# Altium schematic symbol library semtech.SchLib: 39 symbols
Pins are listed as number, name and electrical type; pins without a type are passive.

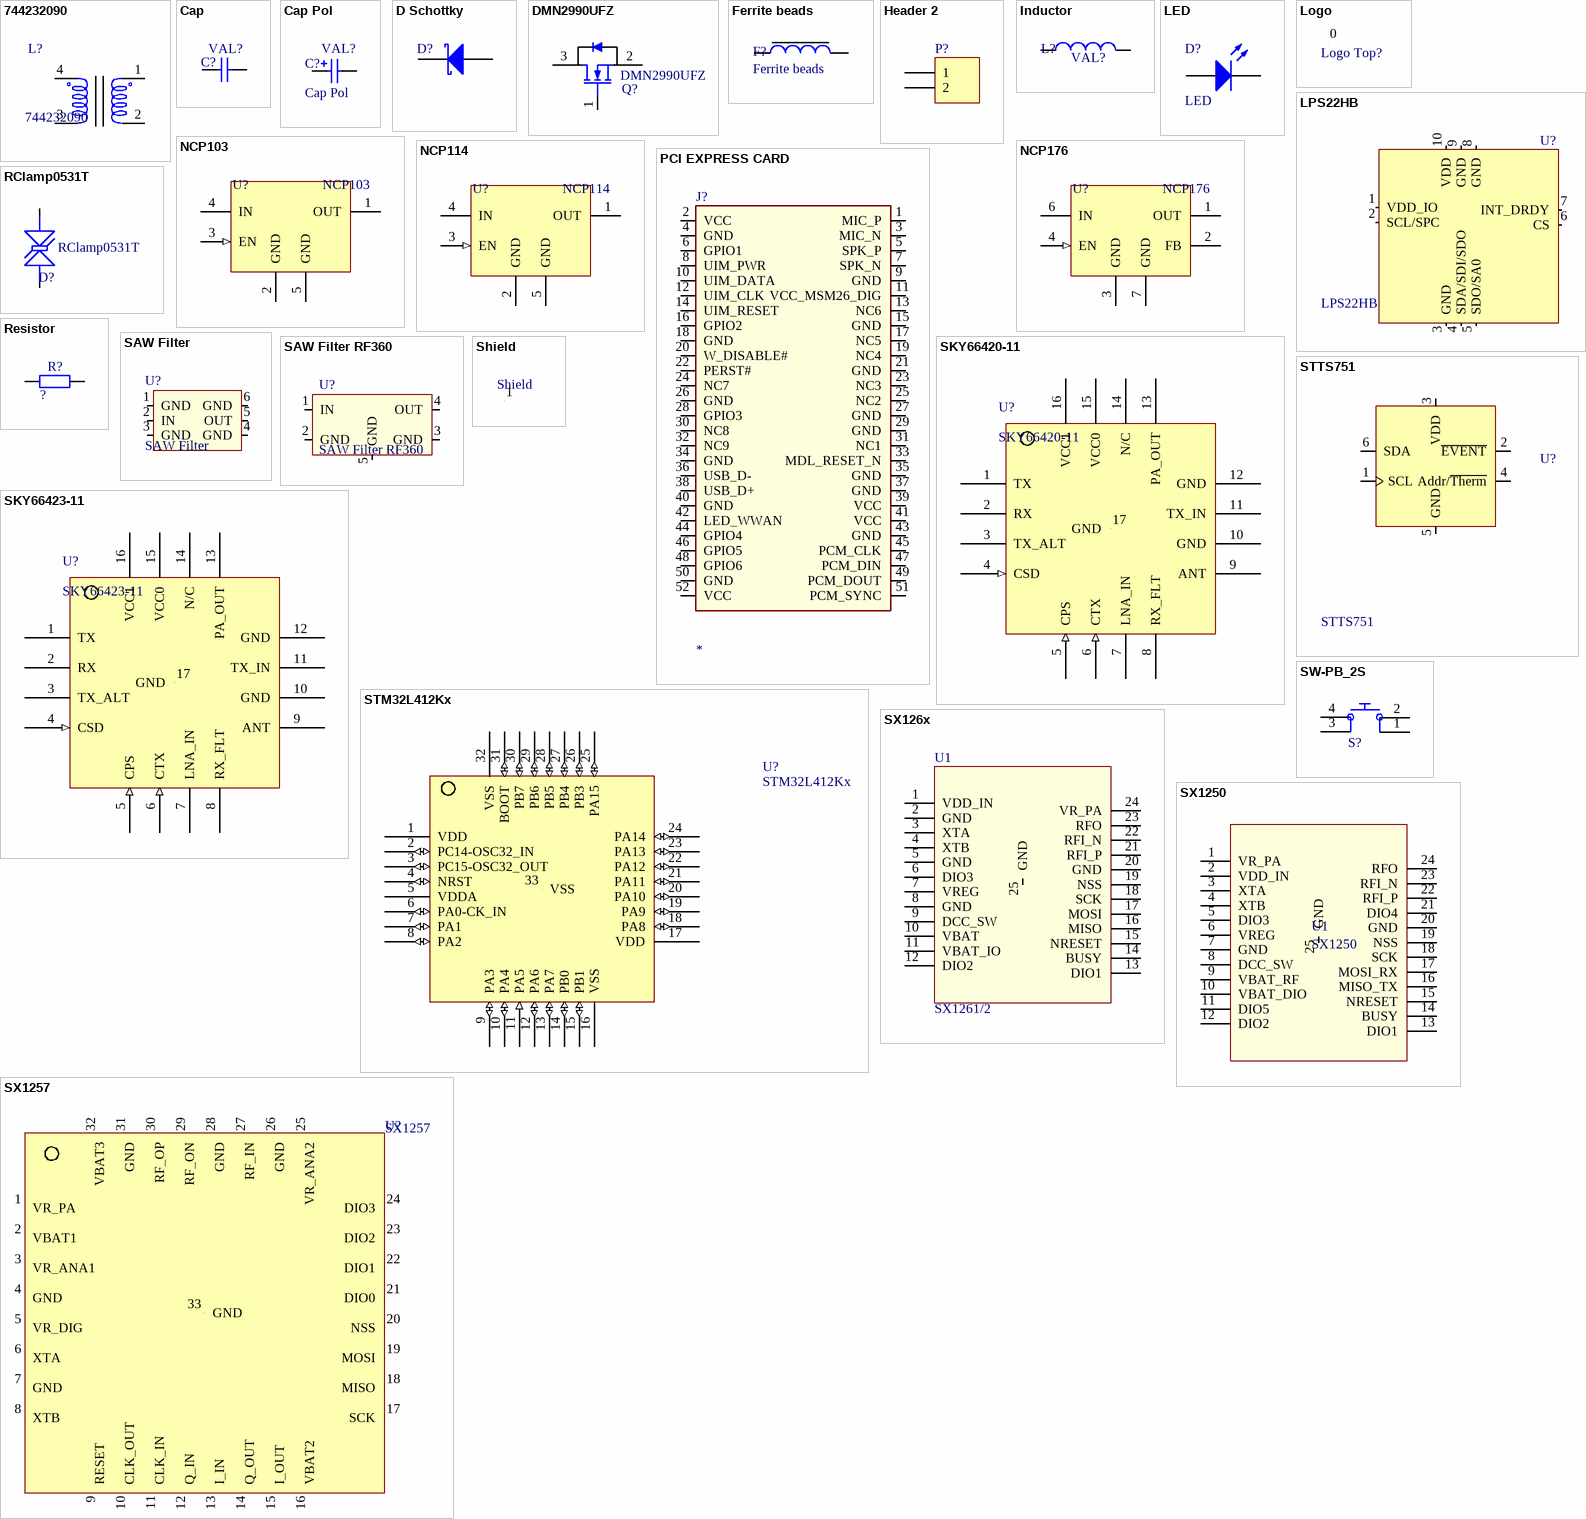
[diagram p0: symbols 744232090 to SX1257]

## 744232090
designator L?
2 Line Common Mode Choke Surface Mount 90 Ohms @ 100MHz 370mA DCR 300mOhm; MF: Wurth Electronics; Package: Horizontal-4 Wurth; MP: 744232090; Digi-Key_Purchase_URL: https://www.digikey.com/product-detail/en/w-rth-elektronik/744232090/732-1469-1-ND/1639481?utm_source=snapeda&utm_medium=aggregator&utm_campaign=symbol; Digi-Key_Part_Number: 732-1469-1-ND; SnapEDA_Link: https://www.snapeda.com/parts/744232090/Wurth%20Electronics%20Inc./view-part/524159/?ref=snap; Value: *
footprint *IND_744232090
pins: 1, 2, 3, 4

## Cap
designator C?  value VAL?  (hidden comment: Cap)
Capacitor SMD; Published: 8-Jun-2000; LatestRevisionDate: 05-oct-2007  -  Semtech; LatestRevisionNote: Re-released for DXP Platform.; Publisher: Altium Limited
simulation model CAP (Semiconductor Capacitor)
signal-integrity model Cap Semi
footprint rlc_402_smd (Chip SMD component 402; Body 1.0 x 0.5 mm (LxW typ))
footprint rlc_603_smd (Chip SMD component 603; Body 1.6 x 0.8mm (LxW typ))
footprint rlc_805_smd (Chip SMD component 805; Body 2.0 x 1.25 mm (LxW typ))
footprint rlc_1206_smd (Chip SMD component 1206; Body 3.2 x 1.6 mm (LxW typ))
footprint rlc_201_smd (Chip SMD component 201; Body 0.6 x 0.3 mm (LxW typ))
footprint CD3224 (Chip Diode; Body 3.2 x 2.4mm (LxW typ))
footprint rlc_201_smd_small (Chip SMD component 201; Body 0.6 x 0.3 mm (LxW typ); small footprint)
footprint rlc_402_smd_small (Chip SMD component 402; Body 1.0 x 0.5 mm (LxW typ);small footprint)
footprint rlc_603_smd_small (Chip SMD component 603; Body 1.6 x 0.8mm (LxW typ); small footprint)
footprint rlc_805_smd_small (Chip SMD component 805; Body 2.0 x 1.25 mm (LxW typ); small footprint)
footprint rlc_1206_smd_small (Chip SMD component 1206; Body 3.2 x 1.6 mm (LxW typ))
pins: 1, 2

## Cap Pol
designator C?  value VAL?
Polarized Capacitor (Surface Mount); Published: 8-Jun-2000; LatestRevisionDate: 05-oct-2007  -  Semtech; LatestRevisionNote: Re-released for DXP Platform.; Publisher: Altium Limited
simulation model CAP (Capacitor)
signal-integrity model Cap Pol
footprint rlc_1210_smd (Chip SMD component 1210; Body 3.2 x 2.5 mm (LxW typ))
footprint rlc_1812_smd (Chip SMD component 1812; Body 4.5 x 3.2 mm (LxW typ))
footprint rlc_2225_smd (Chip SMD component 2225; Body 5.6 x 6.4 mm (LxW typ))
footprint CD3216-1206 (Chip Diode; Body 3.2 x 1.6 mm (LxW typ))
footprint CD2012-0805 (Chip Diode; Body 2.0 x 1.3 mm (LxW typ))
footprint rlc_1206_smd capa pol (Chip SMD component 1206 pol; Body 3.2 x 1.6 mm (LxW typ))
pins: 1, 2
1 alternate drawing of the same symbol

## D Schottky
designator D?
Schottky Diode; Published: 8-Jun-2000; LatestRevisionDate: 17-Jul-2002; LatestRevisionNote: Re-released for DXP Platform.; PackageReference: SMB; Publisher: Altium Limited; Code_JEDEC: DO-214-AA
footprint SOD523 (SOD523; Chip Diode; Body 1.2 x 0.8 mm (LxW typ))
pins: 1 K, 2 A

## DMN2990UFZ
designator Q?
20V N-Channel Enhancement Mode MOSFET; LatestRevisionDate: 04-04-14  -  Semtech
footprint Model Name (Footprint not found)
footprint X2-DFN0606-3 (X2-DFN0606-3 , 3-Leads, Body 1.0x0.6mm)
pins: 1 G, 2 S, 3 D

## Ferrite beads
designator F?
Value: VAL?
footprint rlc_1206_smd (Chip SMD component 1206; Body 3.2 x 1.6 mm (LxW typ))
footprint rlc_805_smd (Chip SMD component 805; Body 2.0 x 1.25 mm (LxW typ))
footprint rlc_603_smd (Chip SMD component 603; Body 1.6 x 0.8mm (LxW typ))
footprint rlc_402_smd (Chip SMD component 402; Body 1.0 x 0.5 mm (LxW typ))
footprint rlc_201_smd (Chip SMD component 201; Body 0.6 x 0.3 mm (LxW typ))
footprint rlc_201_smd_small (Chip SMD component 201; Body 0.6 x 0.3 mm (LxW typ); small footprint)
footprint rlc_402_smd_small (Chip SMD component 402; Body 1.0 x 0.5 mm (LxW typ);small footprint)
footprint rlc_603_smd_small (Chip SMD component 603; Body 1.6 x 0.8mm (LxW typ); small footprint)
footprint rlc_805_smd_small (Chip SMD component 805; Body 2.0 x 1.25 mm (LxW typ); small footprint)
pins: 1, 2

## Header 2
designator P?
Header, 2-Pin; LatestRevisionDate: 17-Jul-2002; LatestRevisionNote: Re-released for DXP Platform.; Publisher: Altium Limited
footprint HDR1X2 (Connector; Header; 2 Position)
signal-integrity model Connector
footprint HDR1X2_SMD (Connector; Header; 2 Position; SMD)
pins: 1, 2

## Inductor
designator L?  value VAL?  (hidden comment: Inductor)
Code_IEC: 1005; Published: 8-Jun-2000; LatestRevisionDate: 05-oct-2007  -  Semtech; LatestRevisionNote: Re-released for DXP Platform.; Publisher: Altium Limited; Code_JEITA: 0402
footprint rlc_402_smd (Chip SMD component 402; Body 1.0 x 0.5 mm (LxW typ))
footprint rlc_1812_smd (Chip SMD component 1812; Body 4.5 x 3.2 mm (LxW typ))
footprint WE-PD2 Wurth 5.2 x 5.8mm (Chip Diode; Body  5.2 x 5.8mm (LxW typ))
footprint XFL4020 Series (Chip SMD component ; Body 4.0 x 4.0 mm (LxW typ))
footprint L2813
footprint L4818
footprint rlc_201_smd (Chip SMD component 201; Body 0.6 x 0.3 mm (LxW typ))
footprint rlc_201_smd_small (Chip SMD component 201; Body 0.6 x 0.3 mm (LxW typ); small footprint)
footprint rlc_402_smd_small (Chip SMD component 402; Body 1.0 x 0.5 mm (LxW typ);small footprint)
footprint rlc_603_smd_small (Chip SMD component 603; Body 1.6 x 0.8mm (LxW typ); small footprint)
footprint rlc_805_smd_small (Chip SMD component 805; Body 2.0 x 1.25 mm (LxW typ); small footprint)
footprint rlc_603_smd (Chip SMD component 603; Body 1.6 x 0.8mm (LxW typ))
footprint rlc_805_smd (Chip SMD component 805; Body 2.0 x 1.25 mm (LxW typ))
pins: 1, 2

## LED
designator D?
LatestRevisionDate: 05-oct-2007  -  Semtech
footprint CD1005-0402 (Chip Diode; Body 1.0 x 0.5 mm (LxW typ))
footprint CD1608-0603 (Chip Diode; Body 1.6 x 0.8 mm (LxW typ))
footprint CD2012-0805 (Chip Diode; Body 2.0 x 1.3 mm (LxW typ))
footprint Reverse LED 3216 - 1206-hole round (Reverse Package Chip LED; Body 3.2 x 1.6 mm (LxW typ))
footprint Reverse LED 3216 - 1206 - hole slot (Reverse Package Chip LED; Body 3.2 x 1.6 mm (LxW typ))
footprint LGM676 LED (Chip Diode; Body 2.1 x 1.4 mm (LxW typ))
pins: 1 A, 2 K

## Logo
designator Logo Top?, comment Logo symbol  (value not drawn)
Schematic symbol for Logo
footprint logo_semtech_horiz_size1 (Logo semtech horizontal - size1 - S)
footprint logo_semtech_horiz_size2 (Logo semtech horizontal - size2 - M)
footprint logo_semtech_horiz_size3 (Logo semtech horizontal - size3 - L)
footprint logo_semtech_horiz_size4 (Logo semtech horizontal - size4 - XL)
footprint Logo DC Supply (Logo for DC Supply)
footprint Logo Recycling2
footprint Logo Recycling1
footprint Logo ESD
footprint Logo CE
footprint Logo LoRa Size4 (Logo LoRa Size4 - Top Overlay - 18x9.5mm - Registered)
footprint Logo LoRa Size3 (Logo LoRa Size3 - Top Overlay - 14.5x8mm - Registered)
footprint Logo LoRa Size2 (Logo LoRa Size2 - Top Overlay - 9x5.5mm - Registered)
footprint Logo LoRa Size1 (Logo LoRa Size1 - Top Overlay - 6x4mm - Registered)
pins: 0 "Logo"

## LPS22HB
designator U?
MEMS nano pressure sensor: 260-1260 hPa absolute digital output barometer; ComponentLink1Description: DataSheet; ComponentLink1URL: https://www.st.com/resource/en/datasheet/dm00140895.pdf
footprint HLGA-10L 2x2mm (HLGA-10L 2x2m; 0.5mm pitch)
pins: 1 VDD_IO (power), 2 SCL/SPC (in), 3 GND (power), 4 SDA/SDI/SDO (io), 5 SDO/SA0 (io), 6 CS (in), 7 INT_DRDY (out), 8 GND (power), 9 GND (power), 10 VDD (power)

## NCP103
designator U?
150 mA CMOS Low Dropout Regulator; Value: ?
footprint UDFN4_1x1mm
pins: 1 OUT (power), 2 GND (power), 3 EN (in), 4 IN, 5 GND (power)

## NCP114
designator U?
300 mA CMOS Low Dropout Regulator; Value: ?
footprint UDFN4_1x1mm
pins: 1 OUT (power), 2 GND (power), 3 EN (in), 4 IN, 5 GND (power)

## NCP176
designator U?
Fast Transient Response Low Voltage 500 mA LDO; Value: ?
footprint XDFN6_1.2X1.2mm (6 Leads, Body 1.2x1.2mm, pitch 0.40mm, XDFN6)
pins: 1 OUT (power), 2 FB (power), 3 GND (power), 4 EN (in), 6 IN, 7 GND (power)

## PCI EXPRESS CARD
designator J?
PCI Express Card - Connector
footprint PCIeMini-GF-2D-800-1K-S52 (Golden finger, PCIeMini, Dual, Staggered, Pitch 0.8mm, 52-Position)
pins: 1 MIC_P (oc), 2 VCC (power), 3 MIC_N, 4 GND (power), 5 SPK_P, 6 GPIO1, 7 SPK_N (oc), 8 UIM_PWR, 9 GND (power), 10 UIM_DATA, 11 VCC_MSM26_DIG, 12 UIM_CLK, 13 NC6, 14 UIM_RESET, 15 GND (power), 16 GPIO2, 17 NC5, 18 GND (power), 19 NC4, 20 W_DISABLE#, 21 GND (power), 22 PERST#, 23 NC3, 24 NC7, 25 NC2, 26 GND (power), 27 GND (power), 28 GPIO3, 29 GND (power), 30 NC8, 31 NC1, 32 NC9, 33 MDL_RESET_N, 34 GND (power), 35 GND (power), 36 USB_D-, 37 GND (power), 38 USB_D+, 39 VCC (power), 40 GND (power), 41 VCC (power), 42 LED_WWAN, 43 GND (power), 44 GPIO4, 45 PCM_CLK, 46 GPIO5, 47 PCM_DIN, 48 GPIO6, 49 PCM_DOUT, 50 GND (power), 51 PCM_SYNC, 52 VCC (power)

## RClamp0531T
designator D?
Ultra Low Capacitance 1-line ESD Protection; LatestRevisionDate: 23-Aug-2016; Type: RClamp0531T
footprint SLP1006P2T (Chip TVS Diode; Body 1.0 x 0.6 mm (LxW typ))
pins: 1 A, 2 K

## Resistor
designator R?  (value not drawn)
Resistor SMD - IEC symbol version; LatestRevisionDate: 27-Jul-20  -  Semtech; Value: ?
footprint rlc_201_smd (Chip SMD component 201; Body 0.6 x 0.3 mm (LxW typ))
footprint rlc_402_smd (Chip SMD component 402; Body 1.0 x 0.5 mm (LxW typ))
footprint rlc_603_smd (Chip SMD component 603; Body 1.6 x 0.8mm (LxW typ))
footprint rlc_805_smd (Chip SMD component 805; Body 2.0 x 1.25 mm (LxW typ))
footprint rlc_1206_smd (Chip SMD component 1206; Body 3.2 x 1.6 mm (LxW typ))
footprint rlc_201_smd_small (Chip SMD component 201; Body 0.6 x 0.3 mm (LxW typ); small footprint)
footprint rlc_402_smd_small (Chip SMD component 402; Body 1.0 x 0.5 mm (LxW typ);small footprint)
footprint rlc_603_smd_small (Chip SMD component 603; Body 1.6 x 0.8mm (LxW typ); small footprint)
footprint rlc_805_smd_small (Chip SMD component 805; Body 2.0 x 1.25 mm (LxW typ); small footprint)
pins: 1, 2

## SAW Filter
designator U?
SAW Filter - Bandpass - TEMEX type; LatestRevisionDate: 05-oct-2007  -  Semtech
footprint sc44_3.8x3.8mm (sc44 footprint, 3.8x3.8mm)
footprint DCC6C_3.0x3.0mm (DCC6C footprint, 3.0x3.0mm)
pins: 1 GND, 2 IN, 3 GND, 4 GND, 5 OUT, 6 GND

## SAW Filter RF360
designator U?
LatestRevisionDate: 03-03-2017  -  Semtech
footprint QCS5P_1.4x1.1mm (Footprint not found)
pins: 1 IN, 2 GND, 3 GND, 4 OUT, 5 GND

## Shield
designator Shield, comment RF Shield  (value not drawn)
RF Shield - EMI Gasket - Standard Surface Mount Shields
footprint BMI-S-205-F - Shield (BMIS-205-F EMI Gasket - modif SolderMask - Standard Surface Mount Shields -  Laird Technologies)
footprint BMI-S-230-F - Shield (BMI-S-230-F EMI Gasket - SolderMask - Standard Surface Mount Shields -  Laird Technologies)
footprint BMI-S-210-F - Shield (BMI-S-210-F EMI Gasket - SolderMask - Standard Surface Mount Shields -  Laird Technologies)
footprint SMS-461 - Shield (SMS-461 - RF Shield EMI Gasket - Standard Surface Mount Shields -  Leader Tech)
footprint AKMF-18001F Shield (AKMF-18001F - RF Shield EMI Gasket - Standard Surface Mount Shields -  Leader Tech)
pins: 1 "Shield"

## SKY66420-11
designator U?
SKY66420-11 - 860 to 930MHz Front-End Module
footprint SKY66420_16P_3x3mm (16 Leads, Body 3.0x3.0mm, Pitch 0.50mm)
pins: 1 TX, 2 RX, 3 TX_ALT, 4 CSD (in), 5 CPS (in), 6 CTX (in), 7 LNA_IN, 8 RX_FLT, 9 ANT, 10 GND (power), 11 TX_IN, 12 GND (power), 13 PA_OUT, 14 N/C, 15 VCC0 (power), 16 VCC1 (power), 17 GND (power)

## SKY66423-11
designator U?
SKY66423-11 - 860 to 930MHz Front-End Module
footprint SKY66423_16P_3x3mm (16 Leads, Body 3.0x3.0mm, Pitch 0.50mm)
pins: 1 TX, 2 RX, 3 TX_ALT, 4 CSD (in), 5 CPS (in), 6 CTX (in), 7 LNA_IN, 8 RX_FLT, 9 ANT, 10 GND (power), 11 TX_IN, 12 GND (power), 13 PA_OUT, 14 N/C, 15 VCC0 (power), 16 VCC1 (power), 17 GND (power)

## STM32L412Kx
designator U?
Ultra-low-power Arm® Cortex®-M4 32-bit MCU+FPU, 100DMIPS, up to 128KB Flash, 40KB SRAM, analog, ext. SMPS
footprint UFQFPN32_5x5mm (UFQFPN32 Leads, Body 5.0x5.0mm, Pitch 0.50mm)
pins: 1 VDD, 2 PC14-OSC32_IN (io), 3 PC15-OSC32_OUT (io), 4 NRST (io), 5 VDDA (power), 6 PA0-CK_IN (io), 7 PA1 (io), 8 PA2 (io), 9 PA3 (io), 10 PA4 (io), 11 PA5 (in), 12 PA6 (io), 13 PA7 (io), 14 PB0 (io), 15 PB1 (io), 16 VSS (power), 17 VDD (power), 18 PA8 (io), 19 PA9 (io), 20 PA10 (io), 21 PA11 (io), 22 PA12 (io), 23 PA13 (io), 24 PA14 (io), 25 PA15 (io), 26 PB3 (io), 27 PB4 (io), 28 PB5 (io), 29 PB6 (io), 30 PB7 (io), 31 BOOT (io), 32 VSS (power), 33 VSS (power)

## STTS751
designator U?
2.25 V low-voltage local digital temperature sensor; ComponentLink1Description: DataSheet; ComponentLink1URL: https://www.st.com/resource/en/datasheet/dm00140895.pdf
footprint UDFN-6L_2X2mm (6 Leads, Body 2x2mm, pitch 0.65mm, UDFN-6L)
pins: 1 SCL, 2 ~{EVENT}, 3 VDD (power), 4 Addr/~{Therm}, 5 GND (power), 6 SDA (io)

## SW-PB_2S
designator S?, comment SW_PB_2S  (value not drawn)
Subminiature Toggle Switch, Right Angle Mounting, Vertical Actuation; Published: 03-Jul-2017; LatestRevisionDate: 03-Jul-2017; LatestRevisionNote: Schematic revised, PCB Footprint replaced.; DatasheetDocument: 03-Jul-2017; Publisher: Altium Limited; ComponentLink1Description: Manufacturer Link
footprint PTS_830_series_switch_3.5x2.6mm (Single pole switch; Body 3.5x 2.6 mm (LxW typ))
pins: 1, 2, 3, 4

## SX126x
designator U1, comment SX1261/2
SX1261/2 - Ultra low power RF transceiver
footprint vqfn24_4x4mm (24 Leads, Body 4.0x4.0mm, Pitch 0.50mm, VQFN24)
footprint vqfn24_4x4mm (24 Leads, Body 4.0x4.0mm, Pitch 0.50mm, VQFN24)
pins: 1 VDD_IN (power), 2 GND, 3 XTA, 4 XTB, 5 GND, 6 DIO3, 7 VREG (power), 8 GND, 9 DCC_SW (power), 10 VBAT (power), 11 VBAT_IO (power), 12 DIO2, 13 DIO1, 14 BUSY, 15 NRESET, 16 MISO, 17 MOSI, 18 SCK, 19 NSS, 20 GND, 21 RFI_P, 22 RFI_N, 23 RFO, 24 VR_PA (power), 25 GND

## SX1250
designator U1
SX1250 - Ultra low power RF Front-End
footprint vqfn24_4x4mm (24 Leads, Body 4.0x4.0mm, Pitch 0.50mm, VQFN24)
pins: 1 VR_PA (power), 2 VDD_IN, 3 XTA, 4 XTB, 5 DIO3, 6 VREG (power), 7 GND (power), 8 DCC_SW, 9 VBAT_RF (power), 10 VBAT_DIO (power), 11 DIO5, 12 DIO2, 13 DIO1, 14 BUSY, 15 NRESET, 16 MISO_TX, 17 MOSI_RX, 18 SCK, 19 NSS, 20 GND (power), 21 DIO4, 22 RFI_P, 23 RFI_N, 24 RFO, 25 GND (power)

## SX1257
designator U?
SX1257 RF Front-End Transceiver - I/Q New Pinout; LatestRevisionDate: 06-Dec-2013  -  Semtech
footprint vqfn32_5x5mm (32 Leads, Body 5.0x5.0mm, Pitch 0.50mm, VQFN32)
pins: 1 VR_PA, 2 VBAT1, 3 VR_ANA1, 4 GND, 5 VR_DIG, 6 XTA, 7 GND, 8 XTB, 9 RESET, 10 CLK_OUT, 11 CLK_IN, 12 Q_IN, 13 I_IN, 14 Q_OUT, 15 I_OUT, 16 VBAT2, 17 SCK, 18 MISO, 19 MOSI, 20 NSS, 21 DIO0, 22 DIO1, 23 DIO2, 24 DIO3, 25 VR_ANA2, 26 GND, 27 RF_IN, 28 GND, 29 RF_ON, 30 RF_OP, 31 GND, 32 VBAT3, 33 GND

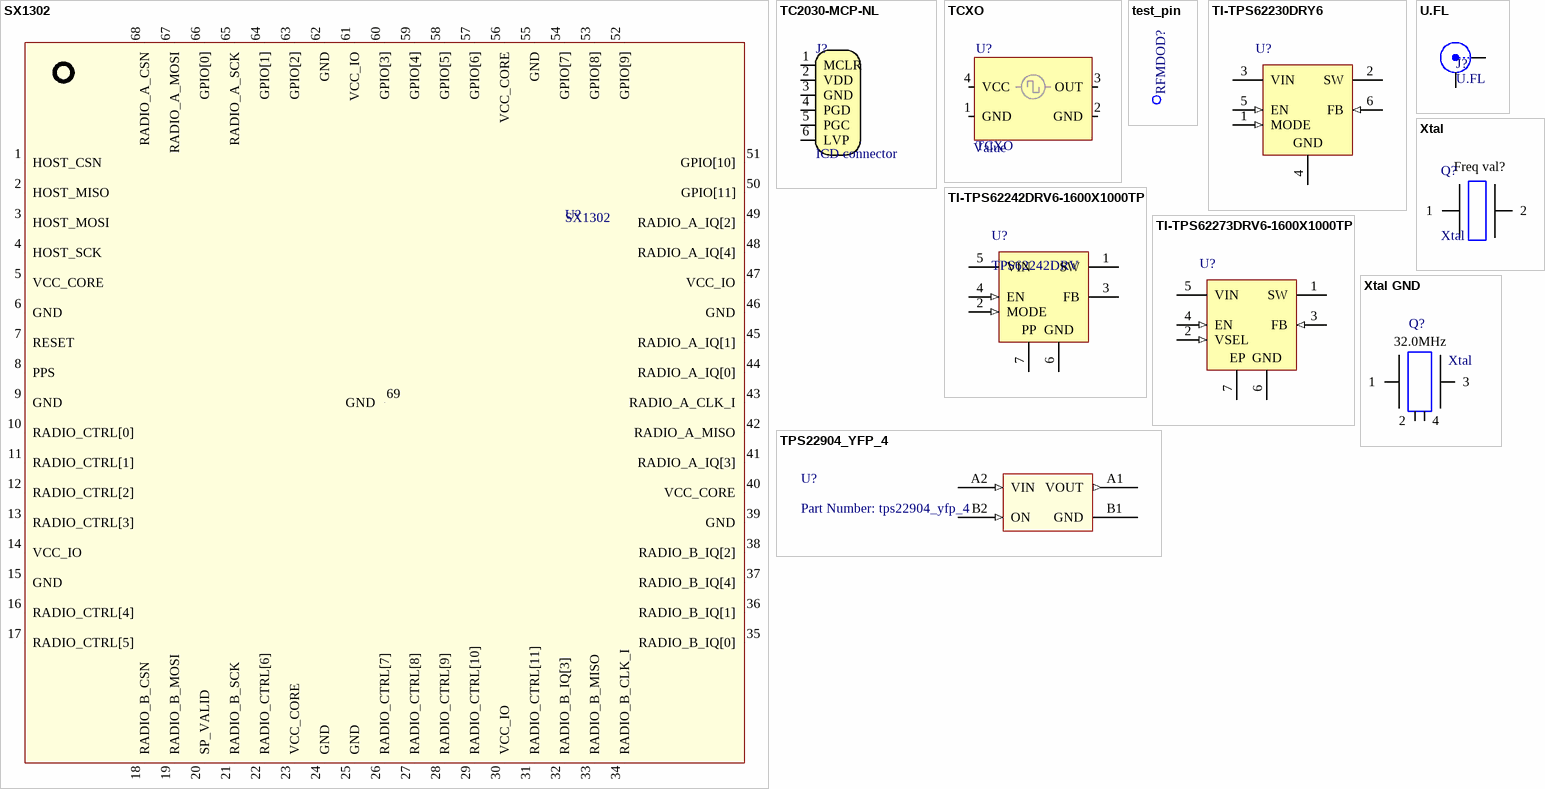
[diagram p1: symbols SX1302 to Xtal GND]

## SX1302
designator U?
SX1302 - Base Band Processor for Data Concentrator for Long Range Communication Network;; LatestRevisionDate: 19-Mar-2014 - Semtech
footprint vqfn68_7x7mm (VQFN68 Leads, Body 7.0x7.0mm, Pitch 0.35mm)
pins: 1 HOST_CSN, 2 HOST_MISO, 3 HOST_MOSI, 4 HOST_SCK, 5 VCC_CORE (power), 6 GND (power), 7 RESET, 8 PPS, 9 GND, 10 RADIO_CTRL[0], 11 RADIO_CTRL[1], 12 RADIO_CTRL[2], 13 RADIO_CTRL[3], 14 VCC_IO (power), 15 GND (power), 16 RADIO_CTRL[4], 17 RADIO_CTRL[5], 18 RADIO_B_CSN, 19 RADIO_B_MOSI, 20 SP_VALID, 21 RADIO_B_SCK, 22 RADIO_CTRL[6], 23 VCC_CORE (power), 24 GND (power), 25 GND (power), 26 RADIO_CTRL[7], 27 RADIO_CTRL[8], 28 RADIO_CTRL[9], 29 RADIO_CTRL[10], 30 VCC_IO (power), 31 RADIO_CTRL[11], 32 RADIO_B_IQ[3], 33 RADIO_B_MISO, 34 RADIO_B_CLK_I, 35 RADIO_B_IQ[0], 36 RADIO_B_IQ[1], 37 RADIO_B_IQ[4], 38 RADIO_B_IQ[2], 39 GND (power), 40 VCC_CORE (power), 41 RADIO_A_IQ[3], 42 RADIO_A_MISO, 43 RADIO_A_CLK_I, 44 RADIO_A_IQ[0], 45 RADIO_A_IQ[1], 46 GND (power), 47 VCC_IO (power), 48 RADIO_A_IQ[4], 49 RADIO_A_IQ[2], 50 GPIO[11], 51 GPIO[10], 52 GPIO[9], 53 GPIO[8], 54 GPIO[7], 55 GND (power), 56 VCC_CORE (power), 57 GPIO[6], 58 GPIO[5], 59 GPIO[4], 60 GPIO[3], 61 VCC_IO (power), 62 GND (power), 63 GPIO[2], 64 GPIO[1], 65 RADIO_A_SCK, 66 GPIO[0], 67 RADIO_A_MOSI, 68 RADIO_A_CSN, 69 GND (power)

## TC2030-MCP-NL
designator J?, comment ICD connector  (no BOM)
Conector par ICD
footprint TC2030-MCP-NL (Conector ICD en placa)
footprint TC2030-MCP (Conector ICD en placa)
pins: 1 MCLR, 2 VDD, 3 GND, 4 PGD, 5 PGC, 6 LVP

## TCXO
designator U?
Value: Value
footprint TCXO 3.2x2.5mm (SMD 3.2x2.5mm for TCXO or VCTCXO)
footprint TCXO 3.2x2.5mm_2.0x1.6mm (SMD 3.2x2.5mm & 2.0x1.6mm compatible for TCXO or VCTCXO)
footprint TCXO 2.0x1.6mm (SMD 2.0x1.6mm for TCXO or VCTCXO)
pins: 1 GND, 2 GND, 3 OUT, 4 VCC

## test_pin
designator RFMDOD?, comment Test Pin  (value not drawn)
LatestRevisionDate: 05-oct-2007  -  Semtech
footprint pin_1mm (Generic Pin 1.1mm; 1 Lead)
footprint pin_1.1mm (Generic Pin 1.1mm; 1 Lead)
footprint pin_0.9mm (Generic Pin 0.9mm; 1 Lead)
footprint PIN_SMD (Generic Pin SMD; 1 Lead)
footprint pin_0.8mm (Generic Pin 0.8mm; 1 Lead)
pins: 1 pin "Test Pin"

## TI-TPS62230DRY6
designator U?
pins: 1 MODE (in) "MODE pin = high forces the device to operate in PWM mode. Mode = low enables the Power Save Mode with automatic transition from PFM (Pulse frequency mode) to PWM (pulse width modulation) mode.", 2 SW (power) "This is the switch pin and is connected to the internal MOSFET switches. Connect the inductor to this terminal", 3 VIN (power) "VIN power supply pin.", 4 GND (power), 5 EN (in) "This is the enable pin of the device. Pulling this pin to low forces the device into shutdown mode. Pulling this pin to high enables the device. This pin must be terminated.", 6 FB (in) "Feedback Pin for the internal regulation loop. Connect this pin directly to the output capacitor."

## TI-TPS62242DRV6-1600X1000TP
designator U?, comment TPS62242DRV
TPS6224x 2.25-MHz 300-mA Step-Down Converter
footprint DRV0006A_V (SON, 6-Leads, Body 2x2mm, Pitch 0.65mm, Thermal Pad 1.6x1mm, TI Recommended)
pins: 1 SW (power) "This is the switch pin and is connected to the internal MOSFET switches. Connect the inductor to this terminal.", 2 MODE (in) "This pin is only available at SON package option. MODE pin = high forces the device to operate in fixed frequency PWM mode. MODE pin = low enables the Power Save Mode with automatic transition from PFM mode to fixed (See Datasheet)", 3 FB "Feedback Pin for the internal regulation loop. Connect the external resistor divider to this pin. In case of fixed output voltage option, connect this pin directly to the output capacitor.", 4 EN (in) "This is the enable pin of the device. Pulling this pin to low forces the device into shutdown mode. Pulling this pin to high enables the device. This pin must be terminated.", 5 VIN (power) "VIN power supply pin.", 6 GND (power) "GND supply pin", 7 PP (power) "Exposed Thermal Pad"

## TI-TPS62273DRV6-1600X1000TP
designator U?
pins: 1 SW (power) "This is the switch pin and is connected to the internal MOSFET switches. Connect the inductor to this terminal", 2 VSEL (in) "Voltage Select input. Please refer to table ordering information for available output voltage selections.", 3 FB (in) "Feedback Pin for the internal regulation loop. Connect the external resistor divider to this pin. In case of fixed output voltage option, connect this pin directly to the output capacitor", 4 EN (in) "This is the enable pin of the device. Pulling this pin to low forces the device into shutdown mode. Pulling this pin to high enables the device. This pin must be terminated.", 5 VIN (power) "VIN power supply pin.", 6 GND (power) "GND supply pin", 7 EP (power) "Exposed Pad"

## TPS22904_YFP_4
designator U?, comment Part Number: tps22904_yfp_4
Ultra-Small Low-Input-Voltage Low rON Load Switch with Quick Output Discharge; Vendor: Texas Instruments; PACKAGE_DESIGNATOR: YFP; PIN_COUNT: 4; FAMILY_NAME: NON CURRENT LIMITED LOAD SWITCH; INDUSTRY_STD_PKG_TYPE: DSBGA; Manufacturer_Part_Number: tps22904_yfp_4; GENERIC_PART_NUMBER: TPS22904; Datasheet_URL: http://www.ti.com/lit/gpn/TPS22904; Manufacturer: Texas Instruments; Copyright: Copyright (C) 2018 Accelerated Designs. All rights reserved; RefDes: RefDes; Type: DEV; Value: Value
pins: A1 VOUT (out), A2 VIN (in), B1 GND (power), B2 ON (in)

## U.FL
designator J?
U.FL Hirose RF Connector; LatestRevisionDate: 21-Feb-2012  -  Semtech
footprint U.FL-R-SMT Hirose (Hirose U.FL RF receptacle - U.FL-R-SMT)
pins: 1 Signal "RF signal", 2 GND "Ground signal", 3 GND "Ground signal"

## Xtal
designator Q?  value Freq val?
Crystal oscillator; LatestRevisionDate: 05-oct-2007  -  Semtech
footprint 3SMXA (Quartz Crystal, SM; Body 6.2 x 3.7 mm (LxW max))
footprint 12SMXA (Quartz Crystal, SM; Body 7.5 x 5.1 mm (LxW max))
footprint BCY-W2/D1.5 (Crystal, Thru-Hole; 2 Leads; Body 1.5 x 5.1 mm (Dia.xH))
footprint BCY-W2/D2.1 (Crystal, Thru-Hole; 2 Leads; Body 2.1 x 6.2 mm (Dia.xH))
footprint DSO-C4/Y2 (Quartz Crystal, SM; 4 Leads; Body 13 x 4.7 x 4.2 mm (LxWxH))
footprint HC49/4H_SMX (Quartz Crystal, SM; Body 13.4 (inc. leads) x 4.9 mm (LxW max))
footprint DSO-C4/D13 (Quartz Crystal, SM; 4 Leads; Body 13 x 5 x 5 mm (LxWxH))
footprint Crystal_3.2x1.5 (Quartz Crystal, SM; Body 3.2x1.5 mm (LxW max))
footprint FC-135 3.2x1.5mm (Crystal unit; 2 leads; 3.2x1.5mm)
footprint CM315D (CM315D; 3.2x1.5mm package)
pins: 1, 2

## Xtal GND
designator Q?, comment Xtal  value 32.0MHz
Crystal with GND pins; LatestRevisionDate: 05-oct-2007  -  Semtech
footprint nd2520da (Crystal SMD 2.5x2.0mm)
footprint nd2016da (Crystal SMD 2.0x1.6mm)
footprint nd3225da (Crystal SMD 3.2x2.5mm)
footprint nd5032da (Crystal SMD 5.0x3.2mm)
footprint nd6035da (Crystal SMD 6.0x3.5mm)
footprint nd7050da - enlarge (Crystal SMD 7.0x5.0mm - Enlarge Pads to be compatible with 3.2x2.5mm footprint)
footprint nd3225da - nd2520da (Crystal SMD 3.2x2.5mm compatible with 2.5x2.0mm)
pins: 1, 2, 3, 4